# EAGLE library part YM3012_DEV (library YM3012)
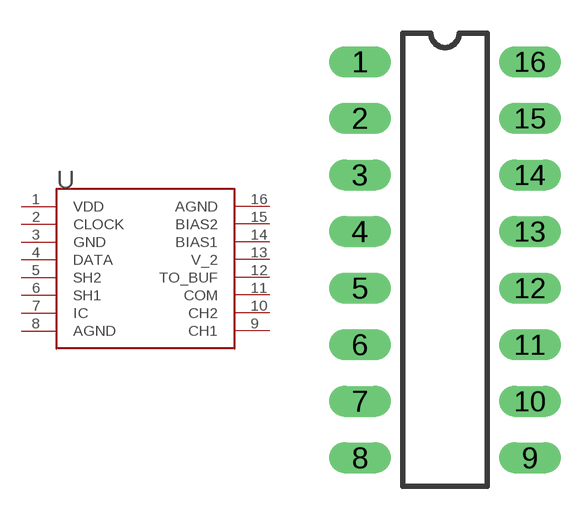
[diagram p0: symbol with the pads of YM3012_PAC; footprint YM3012_PAC]

Designator prefix -

## YM3012_DEV  [YM3012_PAC]
1  VDD  pwr
2  CLOCK  in
3  GND  sup
4  DATA  in
5  SH2  in
6  SH1  in
7  IC  in
8  AGND  sup
9  CH1  out
10  CH2  out
11  COM
12  TO_BUF  out
13  V_2
14  BIAS1  out
15  BIAS2  out
16  AGND  sup

## Footprint YM3012_PAC (pad centres in mm)
drill 0.889 pad 1.372 long: 1 0,-2.54; 2 0,-5.08; 3 0,-7.62; 4 0,-10.16; 5 0,-12.7; 6 0,-15.24; 7 0,-17.78; 8 0,-20.32; 9 7.62,-20.32; 10 7.62,-17.78; 11 7.62,-15.24; 12 7.62,-12.7; 13 7.62,-10.16; 14 7.62,-7.62; 15 7.62,-5.08; 16 7.62,-2.54